# Altium integrated library Linear Technology Operational Amplifiers (LT1000).IntLib: 2280 symbols (part 72 of 79)
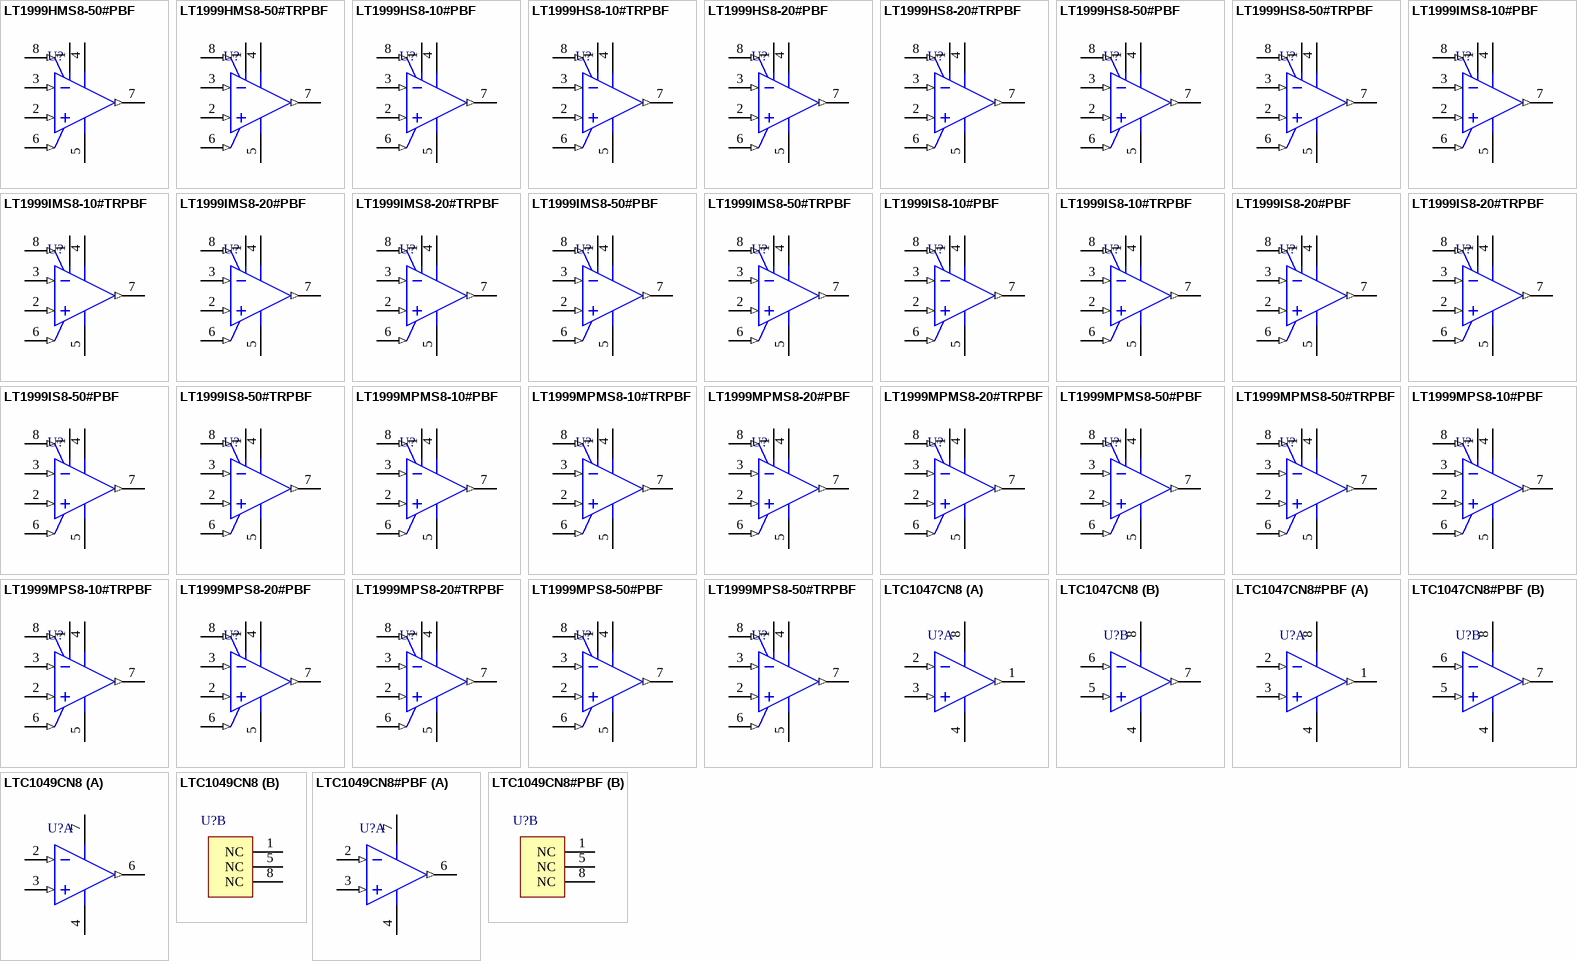
[diagram p176: symbols LT1999HMS8-50#PBF to LTC1049CN8#PBF]

## LT1999IS8-20#TRPBF
designator U?
Single Channel, High Voltage, Bidirectional Current Sense Amplifier, 2 MHz Typical GBW, 3 V/us Typical SR, 4.5 to 5.5 V, 8-Pin SOIC (S8-8), Industrial, Pb-Free, Reel; Linear Technology Part Number: LT1999-20; Manufacturer: Linear Technology; PartNumber: LT1999IS8-20#TRPBF; Channels (#): 1; GBW (MHz) Typical: 2; Is (mA) Typical: 1.55; SR (V/us) Typical: 3; Vos (mV) Typical: 0.5; Vs Max (V): 5.5; Vs Min (V): 4.5; DatasheetVersion: Rev. B; PackageVersion: Rev G; PackageReference: LT-S8-8; PackageDescription: 8-Pin Plastic Small Outline, Body 4.9 x 3.9 mm, Pitch 1.27 mm; Supplier 1: Digi-Key; Supplier Part Number 1: LT1999IS8-20#TRPBF-ND; Packing: Reel; RoHS: Pb-Free; Type: CSA; Mounting Technology: Surface Mount; ComponentLink1Description: Manufacturer URL; ComponentLink1URL: http://www.linear.com/; ComponentLink2Description: Datasheet; ComponentLink2URL: http://cds.linear.com/docs/en/datasheet/1999fb.pdf; ComponentLink3Description: Package Specification; ComponentLink3URL: http://cds.linear.com/docs/en/packaging/05081610_G_SO8.pdf
footprint LT-S8-8_N (SOIC, 8-Leads, Body 4.9x3.9mm, Pitch 1.27mm, IPC Medium Density)
footprint LT-S8-8_L (SOIC, 8-Leads, Body 4.9x3.9mm, Pitch 1.27mm, IPC High Density)
footprint LT-S8-8_M (SOIC, 8-Leads, Body 4.9x3.9mm, Pitch 1.27mm, IPC Low Density)
pins: 1 V+ (power) "Power Supply Voltage. Pins 1 and 4 are tied internally together. The specified range of operation is 4.5V to 5.5V, but lower supply voltages (down to approximately 4V) is possible although the LT1999 is not tested or (See Datasheet)", 2 +IN (in) "Positive Sense Input Pin.", 3 -IN (in) "Negative Sense Input Pin.", 4 V+ (power) "Power Supply Voltage. Pins 1 and 4 are tied internally together. The specified range of operation is 4.5V to 5.5V, but lower supply voltages (down to approximately 4V) is possible although the LT1999 is not tested or (See Datasheet)", 5 GND (power) "Ground Pin.", 6 REF (in) "Reference Pin Input. The REF pin sets the output common mode level and is set halfway between V+ and GND using a divider made of two 160k resistors. The default open circuit potential of the REF pin is mid-supply.It can be (See Datasheet)", 7 OUT (out) "Voltage Output. VOUT = AV•(VSENSE +/- VOSI),where AV is the gain, and VOSI is the input referred offset voltage. The output amplifier has a low impedance output and is designed to drive up to 200pF capacitive loads directly. (See Datasheet)", 8 ~{SHDN} (in) "Shutdown Pin. When pulled to within 0.5V of GND (Pin 5), will place the LT1999 into low power shutdown. If the pin is left floating, an internal 2uA pullup current source will place the LT1999 into the active (amplifying) (See Datasheet)"

## LT1999IS8-50#PBF
designator U?
Single Channel, High Voltage, Bidirectional Current Sense Amplifier, 2 MHz Typical GBW, 3 V/us Typical SR, 4.5 to 5.5 V, 8-Pin SOIC (S8-8), Industrial, Pb-Free; Linear Technology Part Number: LT1999-50; Manufacturer: Linear Technology; PartNumber: LT1999IS8-50#PBF; Channels (#): 1; GBW (MHz) Typical: 2; Is (mA) Typical: 1.55; SR (V/us) Typical: 3; Vos (mV) Typical: 0.5; Vs Max (V): 5.5; Vs Min (V): 4.5; DatasheetVersion: Rev. B; PackageVersion: Rev G; PackageReference: LT-S8-8; PackageDescription: 8-Pin Plastic Small Outline, Body 4.9 x 3.9 mm, Pitch 1.27 mm; Supplier 1: Digi-Key; Supplier Part Number 1: LT1999IS8-50#PBF-ND; Supplier 2: Farnell; Supplier Part Number 2: 1868108; RoHS: Pb-Free; Type: CSA; Mounting Technology: Surface Mount; ComponentLink1Description: Manufacturer URL; ComponentLink1URL: http://www.linear.com/; ComponentLink2Description: Datasheet; ComponentLink2URL: http://cds.linear.com/docs/en/datasheet/1999fb.pdf; ComponentLink3Description: Package Specification; ComponentLink3URL: http://cds.linear.com/docs/en/packaging/05081610_G_SO8.pdf
footprint LT-S8-8_N (SOIC, 8-Leads, Body 4.9x3.9mm, Pitch 1.27mm, IPC Medium Density)
footprint LT-S8-8_L (SOIC, 8-Leads, Body 4.9x3.9mm, Pitch 1.27mm, IPC High Density)
footprint LT-S8-8_M (SOIC, 8-Leads, Body 4.9x3.9mm, Pitch 1.27mm, IPC Low Density)
pins: 1 V+ (power) "Power Supply Voltage. Pins 1 and 4 are tied internally together. The specified range of operation is 4.5V to 5.5V, but lower supply voltages (down to approximately 4V) is possible although the LT1999 is not tested or (See Datasheet)", 2 +IN (in) "Positive Sense Input Pin.", 3 -IN (in) "Negative Sense Input Pin.", 4 V+ (power) "Power Supply Voltage. Pins 1 and 4 are tied internally together. The specified range of operation is 4.5V to 5.5V, but lower supply voltages (down to approximately 4V) is possible although the LT1999 is not tested or (See Datasheet)", 5 GND (power) "Ground Pin.", 6 REF (in) "Reference Pin Input. The REF pin sets the output common mode level and is set halfway between V+ and GND using a divider made of two 160k resistors. The default open circuit potential of the REF pin is mid-supply.It can be (See Datasheet)", 7 OUT (out) "Voltage Output. VOUT = AV•(VSENSE +/- VOSI),where AV is the gain, and VOSI is the input referred offset voltage. The output amplifier has a low impedance output and is designed to drive up to 200pF capacitive loads directly. (See Datasheet)", 8 ~{SHDN} (in) "Shutdown Pin. When pulled to within 0.5V of GND (Pin 5), will place the LT1999 into low power shutdown. If the pin is left floating, an internal 2uA pullup current source will place the LT1999 into the active (amplifying) (See Datasheet)"

## LT1999IS8-50#TRPBF
designator U?
Single Channel, High Voltage, Bidirectional Current Sense Amplifier, 2 MHz Typical GBW, 3 V/us Typical SR, 4.5 to 5.5 V, 8-Pin SOIC (S8-8), Industrial, Pb-Free, Reel; Linear Technology Part Number: LT1999-50; Manufacturer: Linear Technology; PartNumber: LT1999IS8-50#TRPBF; Channels (#): 1; GBW (MHz) Typical: 2; Is (mA) Typical: 1.55; SR (V/us) Typical: 3; Vos (mV) Typical: 0.5; Vs Max (V): 5.5; Vs Min (V): 4.5; DatasheetVersion: Rev. B; PackageVersion: Rev G; PackageReference: LT-S8-8; PackageDescription: 8-Pin Plastic Small Outline, Body 4.9 x 3.9 mm, Pitch 1.27 mm; Supplier 1: Digi-Key; Supplier Part Number 1: LT1999IS8-50#TRPBF-ND; Packing: Reel; RoHS: Pb-Free; Type: CSA; Mounting Technology: Surface Mount; ComponentLink1Description: Manufacturer URL; ComponentLink1URL: http://www.linear.com/; ComponentLink2Description: Datasheet; ComponentLink2URL: http://cds.linear.com/docs/en/datasheet/1999fb.pdf; ComponentLink3Description: Package Specification; ComponentLink3URL: http://cds.linear.com/docs/en/packaging/05081610_G_SO8.pdf
footprint LT-S8-8_N (SOIC, 8-Leads, Body 4.9x3.9mm, Pitch 1.27mm, IPC Medium Density)
footprint LT-S8-8_L (SOIC, 8-Leads, Body 4.9x3.9mm, Pitch 1.27mm, IPC High Density)
footprint LT-S8-8_M (SOIC, 8-Leads, Body 4.9x3.9mm, Pitch 1.27mm, IPC Low Density)
pins: 1 V+ (power) "Power Supply Voltage. Pins 1 and 4 are tied internally together. The specified range of operation is 4.5V to 5.5V, but lower supply voltages (down to approximately 4V) is possible although the LT1999 is not tested or (See Datasheet)", 2 +IN (in) "Positive Sense Input Pin.", 3 -IN (in) "Negative Sense Input Pin.", 4 V+ (power) "Power Supply Voltage. Pins 1 and 4 are tied internally together. The specified range of operation is 4.5V to 5.5V, but lower supply voltages (down to approximately 4V) is possible although the LT1999 is not tested or (See Datasheet)", 5 GND (power) "Ground Pin.", 6 REF (in) "Reference Pin Input. The REF pin sets the output common mode level and is set halfway between V+ and GND using a divider made of two 160k resistors. The default open circuit potential of the REF pin is mid-supply.It can be (See Datasheet)", 7 OUT (out) "Voltage Output. VOUT = AV•(VSENSE +/- VOSI),where AV is the gain, and VOSI is the input referred offset voltage. The output amplifier has a low impedance output and is designed to drive up to 200pF capacitive loads directly. (See Datasheet)", 8 ~{SHDN} (in) "Shutdown Pin. When pulled to within 0.5V of GND (Pin 5), will place the LT1999 into low power shutdown. If the pin is left floating, an internal 2uA pullup current source will place the LT1999 into the active (amplifying) (See Datasheet)"

## LT1999MPMS8-10#PBF
designator U?
Single Channel, High Voltage, Bidirectional Current Sense Amplifier, 2 MHz Typical GBW, 3 V/us Typical SR, 4.5 to 5.5 V, 8-Pin SOP (MS8-8), Military Plastic, Pb-Free; Linear Technology Part Number: LT1999-10; Manufacturer: Linear Technology; PartNumber: LT1999MPMS8-10#PBF; Channels (#): 1; GBW (MHz) Typical: 2; Is (mA) Typical: 1.55; SR (V/us) Typical: 3; Vos (mV) Typical: 0.5; Vs Max (V): 5.5; Vs Min (V): 4.5; DatasheetVersion: Rev. B; PackageVersion: Rev G; PackageReference: LT-MS8-8; PackageDescription: 8-Lead Plastic Small Outline, Body 3.9 x 4.9 mm, Pitch 1.27 mm; Supplier 1: Digi-Key; Supplier Part Number 1: LT1999MPMS8-10#PBF-ND; RoHS: Pb-Free; Type: CSA; Mounting Technology: Surface Mount; ComponentLink1Description: Manufacturer URL; ComponentLink1URL: http://www.linear.com/; ComponentLink2Description: Datasheet; ComponentLink2URL: http://cds.linear.com/docs/en/datasheet/1999fb.pdf; ComponentLink3Description: Package Specification; ComponentLink3URL: http://cds.linear.com/docs/en/packaging/05081610_G_SO8.pdf
footprint LT-MS8-8_N (SOP, 8-Leads, Body 3x3mm, Pitch 0.65mm, IPC Medium Density)
footprint LT-MS8-8_L (SOP, 8-Leads, Body 3x3mm, Pitch 0.65mm, IPC High Density)
footprint LT-MS8-8_M (SOP, 8-Leads, Body 3x3mm, Pitch 0.65mm, IPC Low Density)
pins: 1 V+ (power) "Power Supply Voltage. Pins 1 and 4 are tied internally together. The specified range of operation is 4.5V to 5.5V, but lower supply voltages (down to approximately 4V) is possible although the LT1999 is not tested or (See Datasheet)", 2 +IN (in) "Positive Sense Input Pin.", 3 -IN (in) "Negative Sense Input Pin.", 4 V+ (power) "Power Supply Voltage. Pins 1 and 4 are tied internally together. The specified range of operation is 4.5V to 5.5V, but lower supply voltages (down to approximately 4V) is possible although the LT1999 is not tested or (See Datasheet)", 5 GND (power) "Ground Pin.", 6 REF (in) "Reference Pin Input. The REF pin sets the output common mode level and is set halfway between V+ and GND using a divider made of two 160k resistors. The default open circuit potential of the REF pin is mid-supply.It can be (See Datasheet)", 7 OUT (out) "Voltage Output. VOUT = AV•(VSENSE +/- VOSI),where AV is the gain, and VOSI is the input referred offset voltage. The output amplifier has a low impedance output and is designed to drive up to 200pF capacitive loads directly. (See Datasheet)", 8 ~{SHDN} (in) "Shutdown Pin. When pulled to within 0.5V of GND (Pin 5), will place the LT1999 into low power shutdown. If the pin is left floating, an internal 2uA pullup current source will place the LT1999 into the active (amplifying) (See Datasheet)"

## LT1999MPMS8-10#TRPBF
designator U?
Single Channel, High Voltage, Bidirectional Current Sense Amplifier, 2 MHz Typical GBW, 3 V/us Typical SR, 4.5 to 5.5 V, 8-Pin SOP (MS8-8), Military Plastic, Pb-Free, Reel; Linear Technology Part Number: LT1999-10; Manufacturer: Linear Technology; PartNumber: LT1999MPMS8-10#TRPBF; Channels (#): 1; GBW (MHz) Typical: 2; Is (mA) Typical: 1.55; SR (V/us) Typical: 3; Vos (mV) Typical: 0.5; Vs Max (V): 5.5; Vs Min (V): 4.5; DatasheetVersion: Rev. B; PackageVersion: Rev G; PackageReference: LT-MS8-8; PackageDescription: 8-Lead Plastic Small Outline, Body 3.9 x 4.9 mm, Pitch 1.27 mm; Supplier 1: Digi-Key; Supplier Part Number 1: LT1999MPMS8-10#TRPBF-ND; Packing: Reel; RoHS: Pb-Free; Type: CSA; Mounting Technology: Surface Mount; ComponentLink1Description: Manufacturer URL; ComponentLink1URL: http://www.linear.com/; ComponentLink2Description: Datasheet; ComponentLink2URL: http://cds.linear.com/docs/en/datasheet/1999fb.pdf; ComponentLink3Description: Package Specification; ComponentLink3URL: http://cds.linear.com/docs/en/packaging/05081610_G_SO8.pdf
footprint LT-MS8-8_N (SOP, 8-Leads, Body 3x3mm, Pitch 0.65mm, IPC Medium Density)
footprint LT-MS8-8_L (SOP, 8-Leads, Body 3x3mm, Pitch 0.65mm, IPC High Density)
footprint LT-MS8-8_M (SOP, 8-Leads, Body 3x3mm, Pitch 0.65mm, IPC Low Density)
pins: 1 V+ (power) "Power Supply Voltage. Pins 1 and 4 are tied internally together. The specified range of operation is 4.5V to 5.5V, but lower supply voltages (down to approximately 4V) is possible although the LT1999 is not tested or (See Datasheet)", 2 +IN (in) "Positive Sense Input Pin.", 3 -IN (in) "Negative Sense Input Pin.", 4 V+ (power) "Power Supply Voltage. Pins 1 and 4 are tied internally together. The specified range of operation is 4.5V to 5.5V, but lower supply voltages (down to approximately 4V) is possible although the LT1999 is not tested or (See Datasheet)", 5 GND (power) "Ground Pin.", 6 REF (in) "Reference Pin Input. The REF pin sets the output common mode level and is set halfway between V+ and GND using a divider made of two 160k resistors. The default open circuit potential of the REF pin is mid-supply.It can be (See Datasheet)", 7 OUT (out) "Voltage Output. VOUT = AV•(VSENSE +/- VOSI),where AV is the gain, and VOSI is the input referred offset voltage. The output amplifier has a low impedance output and is designed to drive up to 200pF capacitive loads directly. (See Datasheet)", 8 ~{SHDN} (in) "Shutdown Pin. When pulled to within 0.5V of GND (Pin 5), will place the LT1999 into low power shutdown. If the pin is left floating, an internal 2uA pullup current source will place the LT1999 into the active (amplifying) (See Datasheet)"

## LT1999MPMS8-20#PBF
designator U?
Single Channel, High Voltage, Bidirectional Current Sense Amplifier, 2 MHz Typical GBW, 3 V/us Typical SR, 4.5 to 5.5 V, 8-Pin SOP (MS8-8), Military Plastic, Pb-Free; Linear Technology Part Number: LT1999-20; Manufacturer: Linear Technology; PartNumber: LT1999MPMS8-20#PBF; Channels (#): 1; GBW (MHz) Typical: 2; Is (mA) Typical: 1.55; SR (V/us) Typical: 3; Vos (mV) Typical: 0.5; Vs Max (V): 5.5; Vs Min (V): 4.5; DatasheetVersion: Rev. B; PackageVersion: Rev G; PackageReference: LT-MS8-8; PackageDescription: 8-Lead Plastic Small Outline, Body 3.9 x 4.9 mm, Pitch 1.27 mm; Supplier 1: Digi-Key; Supplier Part Number 1: LT1999MPMS8-20#PBF-ND; RoHS: Pb-Free; Type: CSA; Mounting Technology: Surface Mount; ComponentLink1Description: Manufacturer URL; ComponentLink1URL: http://www.linear.com/; ComponentLink2Description: Datasheet; ComponentLink2URL: http://cds.linear.com/docs/en/datasheet/1999fb.pdf; ComponentLink3Description: Package Specification; ComponentLink3URL: http://cds.linear.com/docs/en/packaging/05081610_G_SO8.pdf
footprint LT-MS8-8_N (SOP, 8-Leads, Body 3x3mm, Pitch 0.65mm, IPC Medium Density)
footprint LT-MS8-8_L (SOP, 8-Leads, Body 3x3mm, Pitch 0.65mm, IPC High Density)
footprint LT-MS8-8_M (SOP, 8-Leads, Body 3x3mm, Pitch 0.65mm, IPC Low Density)
pins: 1 V+ (power) "Power Supply Voltage. Pins 1 and 4 are tied internally together. The specified range of operation is 4.5V to 5.5V, but lower supply voltages (down to approximately 4V) is possible although the LT1999 is not tested or (See Datasheet)", 2 +IN (in) "Positive Sense Input Pin.", 3 -IN (in) "Negative Sense Input Pin.", 4 V+ (power) "Power Supply Voltage. Pins 1 and 4 are tied internally together. The specified range of operation is 4.5V to 5.5V, but lower supply voltages (down to approximately 4V) is possible although the LT1999 is not tested or (See Datasheet)", 5 GND (power) "Ground Pin.", 6 REF (in) "Reference Pin Input. The REF pin sets the output common mode level and is set halfway between V+ and GND using a divider made of two 160k resistors. The default open circuit potential of the REF pin is mid-supply. It can be (See Datasheet)", 7 OUT (out) "Voltage Output. VOUT = AV•(VSENSE +/- VOSI), where AV is the gain, and VOSI is the input referred offset voltage. The output amplifier has a low impedance output and is designed to drive up to 200pF capacitive loads directly.(See Datasheet)", 8 ~{SHDN} (in) "Shutdown Pin. When pulled to within 0.5V of GND (Pin 5), will place the LT1999 into low power shutdown. If the pin is left floating, an internal 2uA pullup current source will place the LT1999 into the active (amplifying) (See Datasheet)"

## LT1999MPMS8-20#TRPBF
designator U?
Single Channel, High Voltage, Bidirectional Current Sense Amplifier, 2 MHz Typical GBW, 3 V/us Typical SR, 4.5 to 5.5 V, 8-Pin SOP (MS8-8), Military Plastic, Pb-Free, Reel; Linear Technology Part Number: LT1999-20; Manufacturer: Linear Technology; PartNumber: LT1999MPMS8-20#TRPBF; Channels (#): 1; GBW (MHz) Typical: 2; Is (mA) Typical: 1.55; SR (V/us) Typical: 3; Vos (mV) Typical: 0.5; Vs Max (V): 5.5; Vs Min (V): 4.5; DatasheetVersion: Rev. B; PackageVersion: Rev G; PackageReference: LT-MS8-8; PackageDescription: 8-Lead Plastic Small Outline, Body 3.9 x 4.9 mm, Pitch 1.27 mm; Supplier 1: Digi-Key; Supplier Part Number 1: LT1999MPMS8-20#TRPBF-ND; Packing: Reel; RoHS: Pb-Free; Type: CSA; Mounting Technology: Surface Mount; ComponentLink1Description: Manufacturer URL; ComponentLink1URL: http://www.linear.com/; ComponentLink2Description: Datasheet; ComponentLink2URL: http://cds.linear.com/docs/en/datasheet/1999fb.pdf; ComponentLink3Description: Package Specification; ComponentLink3URL: http://cds.linear.com/docs/en/packaging/05081610_G_SO8.pdf
footprint LT-MS8-8_N (SOP, 8-Leads, Body 3x3mm, Pitch 0.65mm, IPC Medium Density)
footprint LT-MS8-8_L (SOP, 8-Leads, Body 3x3mm, Pitch 0.65mm, IPC High Density)
footprint LT-MS8-8_M (SOP, 8-Leads, Body 3x3mm, Pitch 0.65mm, IPC Low Density)
pins: 1 V+ (power) "Power Supply Voltage. Pins 1 and 4 are tied internally together. The specified range of operation is 4.5V to 5.5V, but lower supply voltages (down to approximately 4V) is possible although the LT1999 is not tested or (See Datasheet)", 2 +IN (in) "Positive Sense Input Pin.", 3 -IN (in) "Negative Sense Input Pin.", 4 V+ (power) "Power Supply Voltage. Pins 1 and 4 are tied internally together. The specified range of operation is 4.5V to 5.5V, but lower supply voltages (down to approximately 4V) is possible although the LT1999 is not tested or (See Datasheet)", 5 GND (power) "Ground Pin.", 6 REF (in) "Reference Pin Input. The REF pin sets the output common mode level and is set halfway between V+ and GND using a divider made of two 160k resistors. The default open circuit potential of the REF pin is mid-supply. It can be (See Datasheet)", 7 OUT (out) "Voltage Output. VOUT = AV•(VSENSE +/- VOSI), where AV is the gain, and VOSI is the input referred offset voltage. The output amplifier has a low impedance output and is designed to drive up to 200pF capacitive loads directly.(See Datasheet)", 8 ~{SHDN} (in) "Shutdown Pin. When pulled to within 0.5V of GND (Pin 5), will place the LT1999 into low power shutdown. If the pin is left floating, an internal 2uA pullup current source will place the LT1999 into the active (amplifying) (See Datasheet)"

## LT1999MPMS8-50#PBF
designator U?
Single Channel, High Voltage, Bidirectional Current Sense Amplifier, 2 MHz Typical GBW, 3 V/us Typical SR, 4.5 to 5.5 V, 8-Pin SOP (MS8-8), Military Plastic, Pb-Free; Linear Technology Part Number: LT1999-50; Manufacturer: Linear Technology; PartNumber: LT1999MPMS8-50#PBF; Channels (#): 1; GBW (MHz) Typical: 2; Is (mA) Typical: 1.55; SR (V/us) Typical: 3; Vos (mV) Typical: 0.5; Vs Max (V): 5.5; Vs Min (V): 4.5; DatasheetVersion: Rev. B; PackageVersion: Rev G; PackageReference: LT-MS8-8; PackageDescription: 8-Lead Plastic Small Outline, Body 3.9 x 4.9 mm, Pitch 1.27 mm; Supplier 1: Digi-Key; Supplier Part Number 1: LT1999MPMS8-50#PBF-ND; RoHS: Pb-Free; Type: CSA; Mounting Technology: Surface Mount; ComponentLink1Description: Manufacturer URL; ComponentLink1URL: http://www.linear.com/; ComponentLink2Description: Datasheet; ComponentLink2URL: http://cds.linear.com/docs/en/datasheet/1999fb.pdf; ComponentLink3Description: Package Specification; ComponentLink3URL: http://cds.linear.com/docs/en/packaging/05081610_G_SO8.pdf
footprint LT-MS8-8_N (SOP, 8-Leads, Body 3x3mm, Pitch 0.65mm, IPC Medium Density)
footprint LT-MS8-8_L (SOP, 8-Leads, Body 3x3mm, Pitch 0.65mm, IPC High Density)
footprint LT-MS8-8_M (SOP, 8-Leads, Body 3x3mm, Pitch 0.65mm, IPC Low Density)
pins: 1 V+ (power) "Power Supply Voltage. Pins 1 and 4 are tied internally together. The specified range of operation is 4.5V to 5.5V, but lower supply voltages (down to approximately 4V) is possible although the LT1999 is not tested or (See Datasheet)", 2 +IN (in) "Positive Sense Input Pin.", 3 -IN (in) "Negative Sense Input Pin.", 4 V+ (power) "Power Supply Voltage. Pins 1 and 4 are tied internally together. The specified range of operation is 4.5V to 5.5V, but lower supply voltages (down to approximately 4V) is possible although the LT1999 is not tested or (See Datasheet)", 5 GND (power) "Ground Pin.", 6 REF (in) "Reference Pin Input. The REF pin sets the output common mode level and is set halfway between V+ and GND using a divider made of two 160k resistors. The default open circuit potential of the REF pin is mid-supply. It can be (See Datasheet)", 7 OUT (out) "Voltage Output. VOUT = AV•(VSENSE +/- VOSI), where AV is the gain, and VOSI is the input referred offset voltage. The output amplifier has a low impedance output and is designed to drive up to 200pF capacitive loads directly.(See Datasheet)", 8 ~{SHDN} (in) "Shutdown Pin. When pulled to within 0.5V of GND (Pin 5), will place the LT1999 into low power shutdown. If the pin is left floating, an internal 2uA pullup current source will place the LT1999 into the active (amplifying) (See Datasheet)"

## LT1999MPMS8-50#TRPBF
designator U?
Single Channel, High Voltage, Bidirectional Current Sense Amplifier, 2 MHz Typical GBW, 3 V/us Typical SR, 4.5 to 5.5 V, 8-Pin SOP (MS8-8), Military Plastic, Pb-Free, Reel; Linear Technology Part Number: LT1999-50; Manufacturer: Linear Technology; PartNumber: LT1999MPMS8-50#TRPBF; Channels (#): 1; GBW (MHz) Typical: 2; Is (mA) Typical: 1.55; SR (V/us) Typical: 3; Vos (mV) Typical: 0.5; Vs Max (V): 5.5; Vs Min (V): 4.5; DatasheetVersion: Rev. B; PackageVersion: Rev G; PackageReference: LT-MS8-8; PackageDescription: 8-Lead Plastic Small Outline, Body 3.9 x 4.9 mm, Pitch 1.27 mm; Supplier 1: Digi-Key; Supplier Part Number 1: LT1999MPMS8-50#TRPBF-ND; Packing: Reel; RoHS: Pb-Free; Type: CSA; Mounting Technology: Surface Mount; ComponentLink1Description: Manufacturer URL; ComponentLink1URL: http://www.linear.com/; ComponentLink2Description: Datasheet; ComponentLink2URL: http://cds.linear.com/docs/en/datasheet/1999fb.pdf; ComponentLink3Description: Package Specification; ComponentLink3URL: http://cds.linear.com/docs/en/packaging/05081610_G_SO8.pdf
footprint LT-MS8-8_N (SOP, 8-Leads, Body 3x3mm, Pitch 0.65mm, IPC Medium Density)
footprint LT-MS8-8_L (SOP, 8-Leads, Body 3x3mm, Pitch 0.65mm, IPC High Density)
footprint LT-MS8-8_M (SOP, 8-Leads, Body 3x3mm, Pitch 0.65mm, IPC Low Density)
pins: 1 V+ (power) "Power Supply Voltage. Pins 1 and 4 are tied internally together. The specified range of operation is 4.5V to 5.5V, but lower supply voltages (down to approximately 4V) is possible although the LT1999 is not tested or (See Datasheet)", 2 +IN (in) "Positive Sense Input Pin.", 3 -IN (in) "Negative Sense Input Pin.", 4 V+ (power) "Power Supply Voltage. Pins 1 and 4 are tied internally together. The specified range of operation is 4.5V to 5.5V, but lower supply voltages (down to approximately 4V) is possible although the LT1999 is not tested or (See Datasheet)", 5 GND (power) "Ground Pin.", 6 REF (in) "Reference Pin Input. The REF pin sets the output common mode level and is set halfway between V+ and GND using a divider made of two 160k resistors. The default open circuit potential of the REF pin is mid-supply. It can be (See Datasheet)", 7 OUT (out) "Voltage Output. VOUT = AV•(VSENSE +/- VOSI), where AV is the gain, and VOSI is the input referred offset voltage. The output amplifier has a low impedance output and is designed to drive up to 200pF capacitive loads directly.(See Datasheet)", 8 ~{SHDN} (in) "Shutdown Pin. When pulled to within 0.5V of GND (Pin 5), will place the LT1999 into low power shutdown. If the pin is left floating, an internal 2uA pullup current source will place the LT1999 into the active (amplifying) (See Datasheet)"

## LT1999MPS8-10#PBF
designator U?
Single Channel, High Voltage, Bidirectional Current Sense Amplifier, 2 MHz Typical GBW, 3 V/us Typical SR, 4.5 to 5.5 V, 8-Pin SOIC (S8-8), Military Plastic, Pb-Free; Linear Technology Part Number: LT1999-10; Manufacturer: Linear Technology; PartNumber: LT1999MPS8-10#PBF; Channels (#): 1; GBW (MHz) Typical: 2; Is (mA) Typical: 1.55; SR (V/us) Typical: 3; Vos (mV) Typical: 0.5; Vs Max (V): 5.5; Vs Min (V): 4.5; DatasheetVersion: Rev. B; PackageVersion: Rev G; PackageReference: LT-S8-8; PackageDescription: 8-Pin Plastic Small Outline, Body 4.9 x 3.9 mm, Pitch 1.27 mm; Supplier 1: Digi-Key; Supplier Part Number 1: LT1999MPS8-10#PBF-ND; RoHS: Pb-Free; Type: CSA; Mounting Technology: Surface Mount; ComponentLink1Description: Manufacturer URL; ComponentLink1URL: http://www.linear.com/; ComponentLink2Description: Datasheet; ComponentLink2URL: http://cds.linear.com/docs/en/datasheet/1999fb.pdf; ComponentLink3Description: Package Specification; ComponentLink3URL: http://cds.linear.com/docs/en/packaging/05081610_G_SO8.pdf
footprint LT-S8-8_N (SOIC, 8-Leads, Body 4.9x3.9mm, Pitch 1.27mm, IPC Medium Density)
footprint LT-S8-8_L (SOIC, 8-Leads, Body 4.9x3.9mm, Pitch 1.27mm, IPC High Density)
footprint LT-S8-8_M (SOIC, 8-Leads, Body 4.9x3.9mm, Pitch 1.27mm, IPC Low Density)
pins: 1 V+ (power) "Power Supply Voltage. Pins 1 and 4 are tied internally together. The specified range of operation is 4.5V to 5.5V, but lower supply voltages (down to approximately 4V) is possible although the LT1999 is not tested or (See Datasheet)", 2 +IN (in) "Positive Sense Input Pin.", 3 -IN (in) "Negative Sense Input Pin.", 4 V+ (power) "Power Supply Voltage. Pins 1 and 4 are tied internally together. The specified range of operation is 4.5V to 5.5V, but lower supply voltages (down to approximately 4V) is possible although the LT1999 is not tested or (See Datasheet)", 5 GND (power) "Ground Pin.", 6 REF (in) "Reference Pin Input. The REF pin sets the output common mode level and is set halfway between V+ and GND using a divider made of two 160k resistors. The default open circuit potential of the REF pin is mid-supply.It can be (See Datasheet)", 7 OUT (out) "Voltage Output. VOUT = AV•(VSENSE +/- VOSI),where AV is the gain, and VOSI is the input referred offset voltage. The output amplifier has a low impedance output and is designed to drive up to 200pF capacitive loads directly. (See Datasheet)", 8 ~{SHDN} (in) "Shutdown Pin. When pulled to within 0.5V of GND (Pin 5), will place the LT1999 into low power shutdown. If the pin is left floating, an internal 2uA pullup current source will place the LT1999 into the active (amplifying) (See Datasheet)"

## LT1999MPS8-10#TRPBF
designator U?
Single Channel, High Voltage, Bidirectional Current Sense Amplifier, 2 MHz Typical GBW, 3 V/us Typical SR, 4.5 to 5.5 V, 8-Pin SOIC (S8-8), Military Plastic, Pb-Free, Reel; Linear Technology Part Number: LT1999-10; Manufacturer: Linear Technology; PartNumber: LT1999MPS8-10#TRPBF; Channels (#): 1; GBW (MHz) Typical: 2; Is (mA) Typical: 1.55; SR (V/us) Typical: 3; Vos (mV) Typical: 0.5; Vs Max (V): 5.5; Vs Min (V): 4.5; DatasheetVersion: Rev. B; PackageVersion: Rev G; PackageReference: LT-S8-8; PackageDescription: 8-Pin Plastic Small Outline, Body 4.9 x 3.9 mm, Pitch 1.27 mm; Supplier 1: Digi-Key; Supplier Part Number 1: LT1999MPS8-10#TRPBF-ND; Packing: Reel; RoHS: Pb-Free; Type: CSA; Mounting Technology: Surface Mount; ComponentLink1Description: Manufacturer URL; ComponentLink1URL: http://www.linear.com/; ComponentLink2Description: Datasheet; ComponentLink2URL: http://cds.linear.com/docs/en/datasheet/1999fb.pdf; ComponentLink3Description: Package Specification; ComponentLink3URL: http://cds.linear.com/docs/en/packaging/05081610_G_SO8.pdf
footprint LT-S8-8_N (SOIC, 8-Leads, Body 4.9x3.9mm, Pitch 1.27mm, IPC Medium Density)
footprint LT-S8-8_L (SOIC, 8-Leads, Body 4.9x3.9mm, Pitch 1.27mm, IPC High Density)
footprint LT-S8-8_M (SOIC, 8-Leads, Body 4.9x3.9mm, Pitch 1.27mm, IPC Low Density)
pins: 1 V+ (power) "Power Supply Voltage. Pins 1 and 4 are tied internally together. The specified range of operation is 4.5V to 5.5V, but lower supply voltages (down to approximately 4V) is possible although the LT1999 is not tested or (See Datasheet)", 2 +IN (in) "Positive Sense Input Pin.", 3 -IN (in) "Negative Sense Input Pin.", 4 V+ (power) "Power Supply Voltage. Pins 1 and 4 are tied internally together. The specified range of operation is 4.5V to 5.5V, but lower supply voltages (down to approximately 4V) is possible although the LT1999 is not tested or (See Datasheet)", 5 GND (power) "Ground Pin.", 6 REF (in) "Reference Pin Input. The REF pin sets the output common mode level and is set halfway between V+ and GND using a divider made of two 160k resistors. The default open circuit potential of the REF pin is mid-supply.It can be (See Datasheet)", 7 OUT (out) "Voltage Output. VOUT = AV•(VSENSE +/- VOSI),where AV is the gain, and VOSI is the input referred offset voltage. The output amplifier has a low impedance output and is designed to drive up to 200pF capacitive loads directly. (See Datasheet)", 8 ~{SHDN} (in) "Shutdown Pin. When pulled to within 0.5V of GND (Pin 5), will place the LT1999 into low power shutdown. If the pin is left floating, an internal 2uA pullup current source will place the LT1999 into the active (amplifying) (See Datasheet)"

## LT1999MPS8-20#PBF
designator U?
Single Channel, High Voltage, Bidirectional Current Sense Amplifier, 2 MHz Typical GBW, 3 V/us Typical SR, 4.5 to 5.5 V, 8-Pin SOIC (S8-8), Military Plastic, Pb-Free; Linear Technology Part Number: LT1999-20; Manufacturer: Linear Technology; PartNumber: LT1999MPS8-20#PBF; Channels (#): 1; GBW (MHz) Typical: 2; Is (mA) Typical: 1.55; SR (V/us) Typical: 3; Vos (mV) Typical: 0.5; Vs Max (V): 5.5; Vs Min (V): 4.5; DatasheetVersion: Rev. B; PackageVersion: Rev G; PackageReference: LT-S8-8; PackageDescription: 8-Pin Plastic Small Outline, Body 4.9 x 3.9 mm, Pitch 1.27 mm; Supplier 1: Digi-Key; Supplier Part Number 1: LT1999MPS8-20#PBF-ND; RoHS: Pb-Free; Type: CSA; Mounting Technology: Surface Mount; ComponentLink1Description: Manufacturer URL; ComponentLink1URL: http://www.linear.com/; ComponentLink2Description: Datasheet; ComponentLink2URL: http://cds.linear.com/docs/en/datasheet/1999fb.pdf; ComponentLink3Description: Package Specification; ComponentLink3URL: http://cds.linear.com/docs/en/packaging/05081610_G_SO8.pdf
footprint LT-S8-8_N (SOIC, 8-Leads, Body 4.9x3.9mm, Pitch 1.27mm, IPC Medium Density)
footprint LT-S8-8_L (SOIC, 8-Leads, Body 4.9x3.9mm, Pitch 1.27mm, IPC High Density)
footprint LT-S8-8_M (SOIC, 8-Leads, Body 4.9x3.9mm, Pitch 1.27mm, IPC Low Density)
pins: 1 V+ (power) "Power Supply Voltage. Pins 1 and 4 are tied internally together. The specified range of operation is 4.5V to 5.5V, but lower supply voltages (down to approximately 4V) is possible although the LT1999 is not tested or (See Datasheet)", 2 +IN (in) "Positive Sense Input Pin.", 3 -IN (in) "Negative Sense Input Pin.", 4 V+ (power) "Power Supply Voltage. Pins 1 and 4 are tied internally together. The specified range of operation is 4.5V to 5.5V, but lower supply voltages (down to approximately 4V) is possible although the LT1999 is not tested or (See Datasheet)", 5 GND (power) "Ground Pin.", 6 REF (in) "Reference Pin Input. The REF pin sets the output common mode level and is set halfway between V+ and GND using a divider made of two 160k resistors. The default open circuit potential of the REF pin is mid-supply. It can be (See Datasheet)", 7 OUT (out) "Voltage Output. VOUT = AV•(VSENSE +/- VOSI), where AV is the gain, and VOSI is the input referred offset voltage. The output amplifier has a low impedance output and is designed to drive up to 200pF capacitive loads directly.(See Datasheet)", 8 ~{SHDN} (in) "Shutdown Pin. When pulled to within 0.5V of GND (Pin 5), will place the LT1999 into low power shutdown. If the pin is left floating, an internal 2uA pullup current source will place the LT1999 into the active (amplifying) (See Datasheet)"

## LT1999MPS8-20#TRPBF
designator U?
Single Channel, High Voltage, Bidirectional Current Sense Amplifier, 2 MHz Typical GBW, 3 V/us Typical SR, 4.5 to 5.5 V, 8-Pin SOIC (S8-8), Military Plastic, Pb-Free, Reel; Linear Technology Part Number: LT1999-20; Manufacturer: Linear Technology; PartNumber: LT1999MPS8-20#TRPBF; Channels (#): 1; GBW (MHz) Typical: 2; Is (mA) Typical: 1.55; SR (V/us) Typical: 3; Vos (mV) Typical: 0.5; Vs Max (V): 5.5; Vs Min (V): 4.5; DatasheetVersion: Rev. B; PackageVersion: Rev G; PackageReference: LT-S8-8; PackageDescription: 8-Pin Plastic Small Outline, Body 4.9 x 3.9 mm, Pitch 1.27 mm; Supplier 1: Digi-Key; Supplier Part Number 1: LT1999MPS8-20#TRPBF-ND; Packing: Reel; RoHS: Pb-Free; Type: CSA; Mounting Technology: Surface Mount; ComponentLink1Description: Manufacturer URL; ComponentLink1URL: http://www.linear.com/; ComponentLink2Description: Datasheet; ComponentLink2URL: http://cds.linear.com/docs/en/datasheet/1999fb.pdf; ComponentLink3Description: Package Specification; ComponentLink3URL: http://cds.linear.com/docs/en/packaging/05081610_G_SO8.pdf
footprint LT-S8-8_N (SOIC, 8-Leads, Body 4.9x3.9mm, Pitch 1.27mm, IPC Medium Density)
footprint LT-S8-8_L (SOIC, 8-Leads, Body 4.9x3.9mm, Pitch 1.27mm, IPC High Density)
footprint LT-S8-8_M (SOIC, 8-Leads, Body 4.9x3.9mm, Pitch 1.27mm, IPC Low Density)
pins: 1 V+ (power) "Power Supply Voltage. Pins 1 and 4 are tied internally together. The specified range of operation is 4.5V to 5.5V, but lower supply voltages (down to approximately 4V) is possible although the LT1999 is not tested or (See Datasheet)", 2 +IN (in) "Positive Sense Input Pin.", 3 -IN (in) "Negative Sense Input Pin.", 4 V+ (power) "Power Supply Voltage. Pins 1 and 4 are tied internally together. The specified range of operation is 4.5V to 5.5V, but lower supply voltages (down to approximately 4V) is possible although the LT1999 is not tested or (See Datasheet)", 5 GND (power) "Ground Pin.", 6 REF (in) "Reference Pin Input. The REF pin sets the output common mode level and is set halfway between V+ and GND using a divider made of two 160k resistors. The default open circuit potential of the REF pin is mid-supply. It can be (See Datasheet)", 7 OUT (out) "Voltage Output. VOUT = AV•(VSENSE +/- VOSI), where AV is the gain, and VOSI is the input referred offset voltage. The output amplifier has a low impedance output and is designed to drive up to 200pF capacitive loads directly.(See Datasheet)", 8 ~{SHDN} (in) "Shutdown Pin. When pulled to within 0.5V of GND (Pin 5), will place the LT1999 into low power shutdown. If the pin is left floating, an internal 2uA pullup current source will place the LT1999 into the active (amplifying) (See Datasheet)"

## LT1999MPS8-50#PBF
designator U?
Single Channel, High Voltage, Bidirectional Current Sense Amplifier, 2 MHz Typical GBW, 3 V/us Typical SR, 4.5 to 5.5 V, 8-Pin SOIC (S8-8), Military Plastic, Pb-Free; Linear Technology Part Number: LT1999-50; Manufacturer: Linear Technology; PartNumber: LT1999MPS8-50#PBF; Channels (#): 1; GBW (MHz) Typical: 2; Is (mA) Typical: 1.55; SR (V/us) Typical: 3; Vos (mV) Typical: 0.5; Vs Max (V): 5.5; Vs Min (V): 4.5; DatasheetVersion: Rev. B; PackageVersion: Rev G; PackageReference: LT-S8-8; PackageDescription: 8-Pin Plastic Small Outline, Body 4.9 x 3.9 mm, Pitch 1.27 mm; Supplier 1: Digi-Key; Supplier Part Number 1: LT1999MPS8-50#PBF-ND; RoHS: Pb-Free; Type: CSA; Mounting Technology: Surface Mount; ComponentLink1Description: Manufacturer URL; ComponentLink1URL: http://www.linear.com/; ComponentLink2Description: Datasheet; ComponentLink2URL: http://cds.linear.com/docs/en/datasheet/1999fb.pdf; ComponentLink3Description: Package Specification; ComponentLink3URL: http://cds.linear.com/docs/en/packaging/05081610_G_SO8.pdf
footprint LT-S8-8_N (SOIC, 8-Leads, Body 4.9x3.9mm, Pitch 1.27mm, IPC Medium Density)
footprint LT-S8-8_L (SOIC, 8-Leads, Body 4.9x3.9mm, Pitch 1.27mm, IPC High Density)
footprint LT-S8-8_M (SOIC, 8-Leads, Body 4.9x3.9mm, Pitch 1.27mm, IPC Low Density)
pins: 1 V+ (power) "Power Supply Voltage. Pins 1 and 4 are tied internally together. The specified range of operation is 4.5V to 5.5V, but lower supply voltages (down to approximately 4V) is possible although the LT1999 is not tested or (See Datasheet)", 2 +IN (in) "Positive Sense Input Pin.", 3 -IN (in) "Negative Sense Input Pin.", 4 V+ (power) "Power Supply Voltage. Pins 1 and 4 are tied internally together. The specified range of operation is 4.5V to 5.5V, but lower supply voltages (down to approximately 4V) is possible although the LT1999 is not tested or (See Datasheet)", 5 GND (power) "Ground Pin.", 6 REF (in) "Reference Pin Input. The REF pin sets the output common mode level and is set halfway between V+ and GND using a divider made of two 160k resistors. The default open circuit potential of the REF pin is mid-supply. It can be (See Datasheet)", 7 OUT (out) "Voltage Output. VOUT = AV•(VSENSE +/- VOSI), where AV is the gain, and VOSI is the input referred offset voltage. The output amplifier has a low impedance output and is designed to drive up to 200pF capacitive loads directly.(See Datasheet)", 8 ~{SHDN} (in) "Shutdown Pin. When pulled to within 0.5V of GND (Pin 5), will place the LT1999 into low power shutdown. If the pin is left floating, an internal 2uA pullup current source will place the LT1999 into the active (amplifying) (See Datasheet)"

## LT1999MPS8-50#TRPBF
designator U?
Single Channel, High Voltage, Bidirectional Current Sense Amplifier, 2 MHz Typical GBW, 3 V/us Typical SR, 4.5 to 5.5 V, 8-Pin SOIC (S8-8), Military Plastic, Pb-Free, Reel; Linear Technology Part Number: LT1999-50; Manufacturer: Linear Technology; PartNumber: LT1999MPS8-50#TRPBF; Channels (#): 1; GBW (MHz) Typical: 2; Is (mA) Typical: 1.55; SR (V/us) Typical: 3; Vos (mV) Typical: 0.5; Vs Max (V): 5.5; Vs Min (V): 4.5; DatasheetVersion: Rev. B; PackageVersion: Rev G; PackageReference: LT-S8-8; PackageDescription: 8-Pin Plastic Small Outline, Body 4.9 x 3.9 mm, Pitch 1.27 mm; Supplier 1: Digi-Key; Supplier Part Number 1: LT1999MPS8-50#TRPBF-ND; Packing: Reel; RoHS: Pb-Free; Type: CSA; Mounting Technology: Surface Mount; ComponentLink1Description: Manufacturer URL; ComponentLink1URL: http://www.linear.com/; ComponentLink2Description: Datasheet; ComponentLink2URL: http://cds.linear.com/docs/en/datasheet/1999fb.pdf; ComponentLink3Description: Package Specification; ComponentLink3URL: http://cds.linear.com/docs/en/packaging/05081610_G_SO8.pdf
footprint LT-S8-8_N (SOIC, 8-Leads, Body 4.9x3.9mm, Pitch 1.27mm, IPC Medium Density)
footprint LT-S8-8_L (SOIC, 8-Leads, Body 4.9x3.9mm, Pitch 1.27mm, IPC High Density)
footprint LT-S8-8_M (SOIC, 8-Leads, Body 4.9x3.9mm, Pitch 1.27mm, IPC Low Density)
pins: 1 V+ (power) "Power Supply Voltage. Pins 1 and 4 are tied internally together. The specified range of operation is 4.5V to 5.5V, but lower supply voltages (down to approximately 4V) is possible although the LT1999 is not tested or (See Datasheet)", 2 +IN (in) "Positive Sense Input Pin.", 3 -IN (in) "Negative Sense Input Pin.", 4 V+ (power) "Power Supply Voltage. Pins 1 and 4 are tied internally together. The specified range of operation is 4.5V to 5.5V, but lower supply voltages (down to approximately 4V) is possible although the LT1999 is not tested or (See Datasheet)", 5 GND (power) "Ground Pin.", 6 REF (in) "Reference Pin Input. The REF pin sets the output common mode level and is set halfway between V+ and GND using a divider made of two 160k resistors. The default open circuit potential of the REF pin is mid-supply. It can be (See Datasheet)", 7 OUT (out) "Voltage Output. VOUT = AV•(VSENSE +/- VOSI), where AV is the gain, and VOSI is the input referred offset voltage. The output amplifier has a low impedance output and is designed to drive up to 200pF capacitive loads directly.(See Datasheet)", 8 ~{SHDN} (in) "Shutdown Pin. When pulled to within 0.5V of GND (Pin 5), will place the LT1999 into low power shutdown. If the pin is left floating, an internal 2uA pullup current source will place the LT1999 into the active (amplifying) (See Datasheet)"

## LTC1047CN8
designator U?
Dual Channel, Micropower, Zero-Drift Operational Amplifier with Internal Capacitors, 0.2 MHz Typical GBW, 0.2 V/us Typical SR, 4.75 to 16 V, 8-Pin DIP (N8-8), Commercial; Linear Technology Part Number: LTC1047; Manufacturer: Linear Technology; PartNumber: LTC1047CN8; Channels (#): 2; GBW (MHz) Typical: 0.2; Is (mA) Typical: 0.06; Vos (mV) Typical: 0.003; Vs Max (V): 16; Vs Min (V): 4.75; DatasheetVersion: Rev. A; PackageVersion: Rev I; PackageReference: LT-N8-8; PackageDescription: 8-Lead PDIP, Body 10.16 x 6.48 mm, Pitch 2.54 mm; Supplier 1: Digi-Key; Supplier Part Number 1: LTC1047CN8-ND; SR (V/us) Typical: 0.2; Type: ZD; Mounting Technology: Surface Mount; ComponentLink1Description: Manufacturer URL; ComponentLink1URL: http://www.linear.com/; ComponentLink2Description: Datasheet; ComponentLink2URL: http://cds.linear.com/docs/en/datasheet/1047fa.pdf; ComponentLink3Description: Package Specification; ComponentLink3URL: http://cds.linear.com/docs/en/packaging/05081510_I_N8.pdf
footprint LT-N8-8 (DIP, 8-Leads, Body 10.16x6.48mm, Pitch 2.54mm)
pins on every part: 4 V- (power), 8 V+ (power)
part A pins: 1 OUT A (out), 2 -IN A (in), 3 +IN A (in)
part B pins: 5 +IN B (in), 6 -IN B (in), 7 OUT B (out)

## LTC1047CN8#PBF
designator U?
Dual Channel, Micropower, Zero-Drift Operational Amplifier with Internal Capacitors, 0.2 MHz Typical GBW, 0.2 V/us Typical SR, 4.75 to 16 V, 8-Pin DIP (N8-8), Commercial, Pb-Free; Linear Technology Part Number: LTC1047; Manufacturer: Linear Technology; PartNumber: LTC1047CN8#PBF; Channels (#): 2; GBW (MHz) Typical: 0.2; Is (mA) Typical: 0.06; Vos (mV) Typical: 0.003; Vs Max (V): 16; Vs Min (V): 4.75; DatasheetVersion: Rev. A; PackageVersion: Rev I; PackageReference: LT-N8-8; PackageDescription: 8-Lead PDIP, Body 10.16 x 6.48 mm, Pitch 2.54 mm; Supplier 1: Digi-Key; Supplier Part Number 1: LTC1047CN8#PBF-ND; Supplier 2: Newark; Supplier Part Number 2: 55M8922; RoHS: Pb-Free; SR (V/us) Typical: 0.2; Type: ZD; Mounting Technology: Through Hole; ComponentLink1Description: Manufacturer URL; ComponentLink1URL: http://www.linear.com/; ComponentLink2Description: Datasheet; ComponentLink2URL: http://cds.linear.com/docs/en/datasheet/1047fa.pdf; ComponentLink3Description: Package Specification; ComponentLink3URL: http://cds.linear.com/docs/en/packaging/05081510_I_N8.pdf
footprint LT-N8-8 (DIP, 8-Leads, Body 10.16x6.48mm, Pitch 2.54mm)
pins on every part: 4 V- (power), 8 V+ (power)
part A pins: 1 OUT A (out), 2 -IN A (in), 3 +IN A (in)
part B pins: 5 +IN B (in), 6 -IN B (in), 7 OUT B (out)

## LTC1049CN8
designator U?
Single Channel, Low Power, Zero-Drift Operational Amplifier with Internal Capacitors, 0.8 MHz Typical GBW, 0.8 V/us Typical SR, 4.75 to 18 V, 8-Pin DIP (N8-8), Commercial; Linear Technology Part Number: LTC1049; Manufacturer: Linear Technology; PartNumber: LTC1049CN8; Channels (#): 1; GBW (MHz) Typical: 0.8; Is (mA) Typical: 0.2; Vos (mV) Typical: 0.002; Vs Max (V): 18; Vs Min (V): 4.75; DatasheetVersion: Rev. B; PackageVersion: Rev I; PackageReference: LT-N8-8; PackageDescription: 8-Lead PDIP, Body 10.16 x 6.48 mm, Pitch 2.54 mm; Supplier 1: Digi-Key; Supplier Part Number 1: LTC1049CN8-ND; SR (V/us) Typical: 0.8; Type: ZD; Mounting Technology: Surface Mount; ComponentLink1Description: Manufacturer URL; ComponentLink1URL: http://www.linear.com/; ComponentLink2Description: Datasheet; ComponentLink2URL: http://cds.linear.com/docs/en/datasheet/1049fb.pdf; ComponentLink3Description: Package Specification; ComponentLink3URL: http://cds.linear.com/docs/en/packaging/05081510_I_N8.pdf
footprint LT-N8-8 (DIP, 8-Leads, Body 10.16x6.48mm, Pitch 2.54mm)
part A pins: 2 -IN (in), 3 +IN (in), 4 V- (power), 6 OUT (out), 7 V+ (power)
part B pins: 1 NC, 5 NC, 8 NC

## LTC1049CN8#PBF
designator U?
Single Channel, Low Power, Zero-Drift Operational Amplifier with Internal Capacitors, 0.8 MHz Typical GBW, 0.8 V/us Typical SR, 4.75 to 18 V, 8-Pin DIP (N8-8), Commercial, Pb-Free; Linear Technology Part Number: LTC1049; Manufacturer: Linear Technology; PartNumber: LTC1049CN8#PBF; Channels (#): 1; GBW (MHz) Typical: 0.8; Is (mA) Typical: 0.2; Vos (mV) Typical: 0.002; Vs Max (V): 18; Vs Min (V): 4.75; DatasheetVersion: Rev. B; PackageVersion: Rev I; PackageReference: LT-N8-8; PackageDescription: 8-Lead PDIP, Body 10.16 x 6.48 mm, Pitch 2.54 mm; Supplier 1: Digi-Key; Supplier Part Number 1: LTC1049CN8#PBF-ND; Supplier 2: Farnell; Supplier Part Number 2: 9560750; Supplier 3: Newark; Supplier Part Number 3: 55M8928; RoHS: Pb-Free; SR (V/us) Typical: 0.8; Type: ZD; Mounting Technology: Through Hole; ComponentLink1Description: Manufacturer URL; ComponentLink1URL: http://www.linear.com/; ComponentLink2Description: Datasheet; ComponentLink2URL: http://cds.linear.com/docs/en/datasheet/1049fb.pdf; ComponentLink3Description: Package Specification; ComponentLink3URL: http://cds.linear.com/docs/en/packaging/05081510_I_N8.pdf
footprint LT-N8-8 (DIP, 8-Leads, Body 10.16x6.48mm, Pitch 2.54mm)
part A pins: 2 -IN (in), 3 +IN (in), 4 V- (power), 6 OUT (out), 7 V+ (power)
part B pins: 1 NC, 5 NC, 8 NC

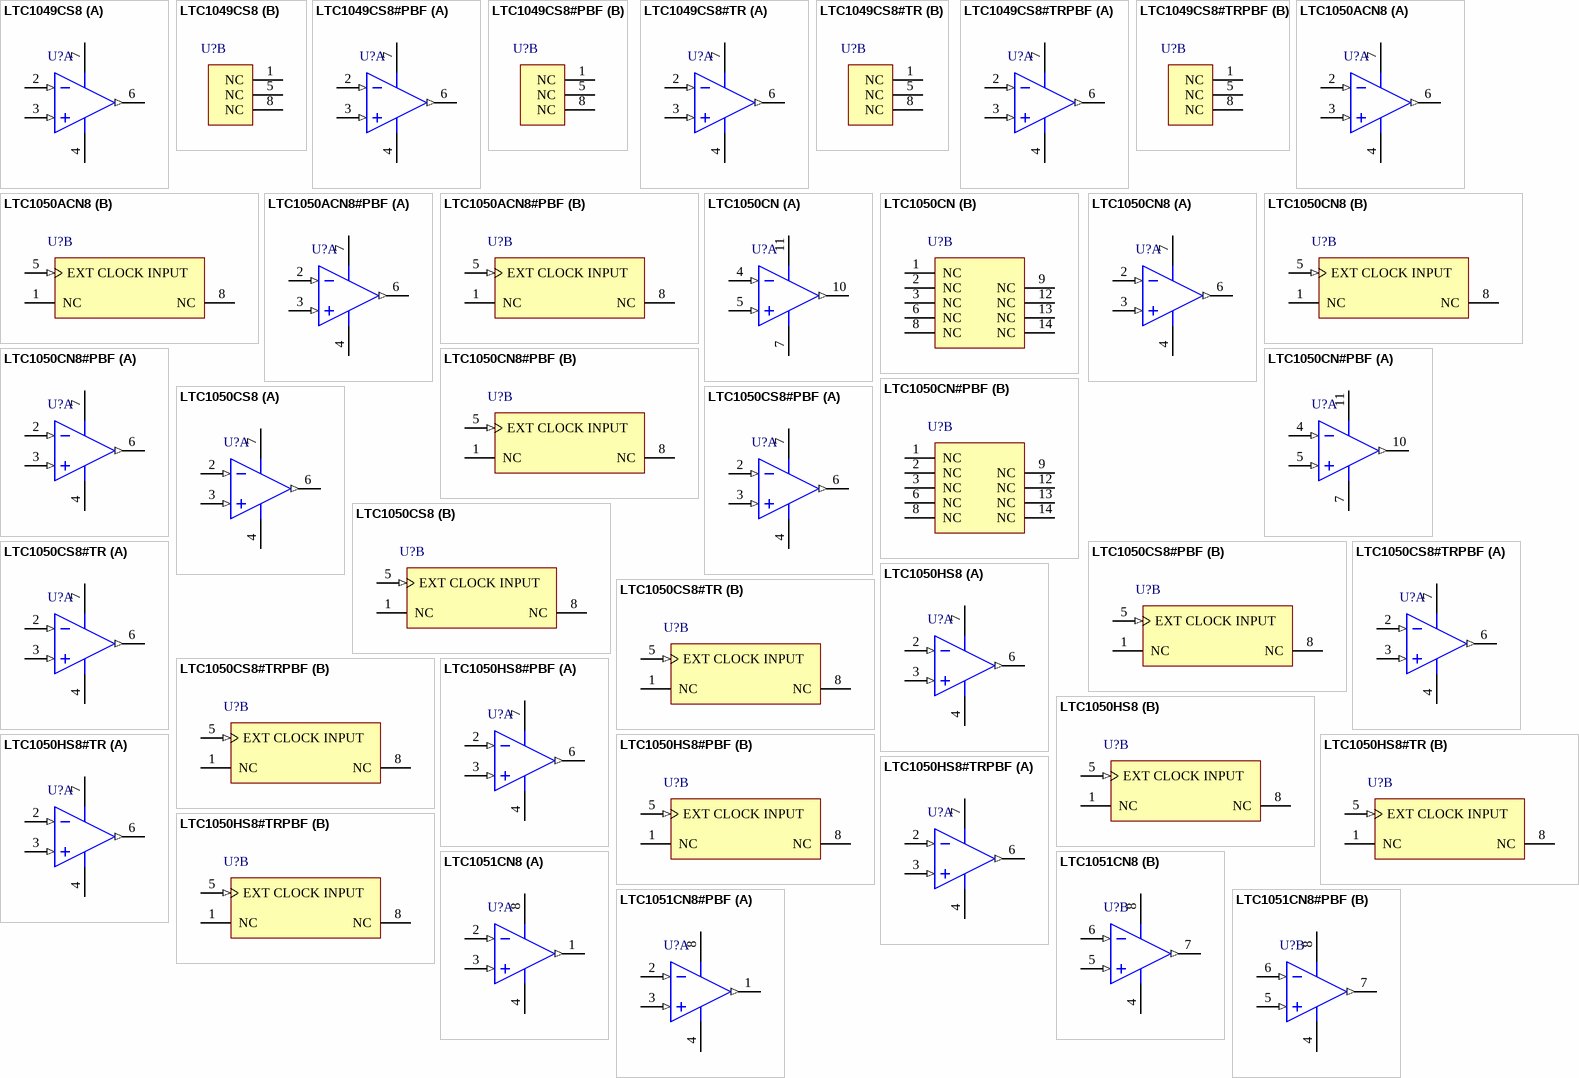
[diagram p101: symbols LTC1049CS8 to LTC1051CN8#PBF]

## LTC1049CS8
designator U?
Single Channel, Low Power, Zero-Drift Operational Amplifier with Internal Capacitors, 0.8 MHz Typical GBW, 0.8 V/us Typical SR, 4.75 to 18 V, 8-Pin SOIC (S8-8), Commercial; Linear Technology Part Number: LTC1049; Manufacturer: Linear Technology; PartNumber: LTC1049CS8; Channels (#): 1; GBW (MHz) Typical: 0.8; Is (mA) Typical: 0.2; Vos (mV) Typical: 0.002; Vs Max (V): 18; Vs Min (V): 4.75; DatasheetVersion: Rev. B; PackageVersion: Rev G; PackageReference: LT-S8-8; PackageDescription: 8-Pin Plastic Small Outline, Body 4.9 x 3.9 mm, Pitch 1.27 mm; Supplier 1: Digi-Key; Supplier Part Number 1: LTC1049CS8-ND; SR (V/us) Typical: 0.8; Type: ZD; Mounting Technology: Surface Mount; ComponentLink1Description: Manufacturer URL; ComponentLink1URL: http://www.linear.com/; ComponentLink2Description: Datasheet; ComponentLink2URL: http://cds.linear.com/docs/en/datasheet/1049fb.pdf; ComponentLink3Description: Package Specification; ComponentLink3URL: http://cds.linear.com/docs/en/packaging/05081610_G_SO8.pdf
footprint LT-S8-8_N (SOIC, 8-Leads, Body 4.9x3.9mm, Pitch 1.27mm, IPC Medium Density)
footprint LT-S8-8_L (SOIC, 8-Leads, Body 4.9x3.9mm, Pitch 1.27mm, IPC High Density)
footprint LT-S8-8_M (SOIC, 8-Leads, Body 4.9x3.9mm, Pitch 1.27mm, IPC Low Density)
part A pins: 2 -IN (in), 3 +IN (in), 4 V- (power), 6 OUT (out), 7 V+ (power)
part B pins: 1 NC, 5 NC, 8 NC

## LTC1049CS8#PBF
designator U?
Single Channel, Low Power, Zero-Drift Operational Amplifier with Internal Capacitors, 0.8 MHz Typical GBW, 0.8 V/us Typical SR, 4.75 to 18 V, 8-Pin SOIC (S8-8), Commercial, Pb-Free; Linear Technology Part Number: LTC1049; Manufacturer: Linear Technology; PartNumber: LTC1049CS8#PBF; Channels (#): 1; GBW (MHz) Typical: 0.8; Is (mA) Typical: 0.2; Vos (mV) Typical: 0.002; Vs Max (V): 18; Vs Min (V): 4.75; DatasheetVersion: Rev. B; PackageVersion: Rev G; PackageReference: LT-S8-8; PackageDescription: 8-Pin Plastic Small Outline, Body 4.9 x 3.9 mm, Pitch 1.27 mm; Supplier 1: Digi-Key; Supplier Part Number 1: LTC1049CS8#PBF-ND; Supplier 2: Farnell; Supplier Part Number 2: 1330778; Supplier 3: Newark; Supplier Part Number 3: 55M8930; RoHS: Pb-Free; SR (V/us) Typical: 0.8; Type: ZD; Mounting Technology: Surface Mount; ComponentLink1Description: Manufacturer URL; ComponentLink1URL: http://www.linear.com/; ComponentLink2Description: Datasheet; ComponentLink2URL: http://cds.linear.com/docs/en/datasheet/1049fb.pdf; ComponentLink3Description: Package Specification; ComponentLink3URL: http://cds.linear.com/docs/en/packaging/05081610_G_SO8.pdf
footprint LT-S8-8_N (SOIC, 8-Leads, Body 4.9x3.9mm, Pitch 1.27mm, IPC Medium Density)
footprint LT-S8-8_L (SOIC, 8-Leads, Body 4.9x3.9mm, Pitch 1.27mm, IPC High Density)
footprint LT-S8-8_M (SOIC, 8-Leads, Body 4.9x3.9mm, Pitch 1.27mm, IPC Low Density)
part A pins: 2 -IN (in), 3 +IN (in), 4 V- (power), 6 OUT (out), 7 V+ (power)
part B pins: 1 NC, 5 NC, 8 NC